# Altium schematic symbol library controls.SchLib: 5 symbols
Pins are listed as number, name and electrical type; pins without a type are passive.

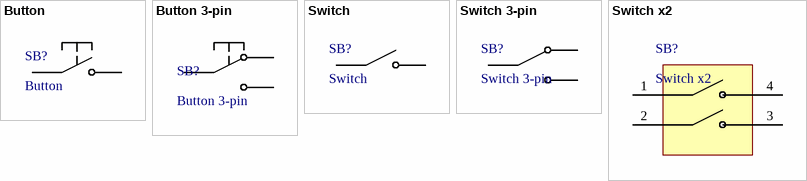
[diagram p0: symbols Button to Switch x2]

## Button
designator SB?
footprint BUTTON_SMD_3x6; pin to pad 3>1 4>2
footprint BUTTON_SMD_6x6; pin to pad 2>3 3>2
pins: 1, 2, 3, 4

## Button 3-pin
designator SB?
pins: 1, 2, 3

## Switch
designator SB?
footprint PLS-2 2.54 (Pitch 2.54)
pins: 1, 2

## Switch 3-pin
designator SB?
footprint PLS-3 2.54 (Pitch 2.54)
pins: 1, 2, 3

## Switch x2
designator SB?
footprint DIP_SWITCH_x2
footprint Model Name (Footprint not found)
pins: 1, 2 1, 3 2, 4 2